# Altium footprint library USB2.0_HUB_CAP.PcbLib: 2 footprints
Each footprint in its own frame and in the unit in brackets; x right, y up, seen from the top. Pads: shape width x height; smd on the part's side, far side on the other; paste and mask are expansions set on the pad; w line width, h text height; cw(c..) or ccw(c..) is an arc to the next point about the centre after c.
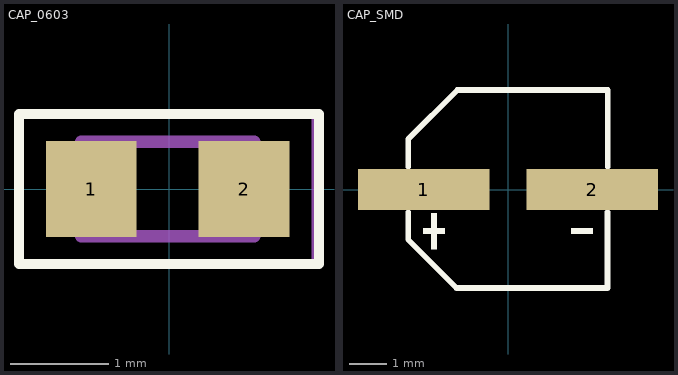
[diagram p0: the footprints below, top view; thin cyan lines are the x and y axes]

## CAP_0603 [mm]
pads (2):
  rect 0.92x0.98 smd: 1(-0.788,0) 2(0.762,0)
Top Overlay:
  lines w0.1: -1.524,-0.762 1.524,-0.762 1.524,0.762 -1.524,0.762 -1.524,-0.762
Mechanical 13:
  lines w0.127: -0.893,-0.48 -0.893,0.48 0.867,0.48 0.867,-0.48 -0.893,-0.48
Mechanical 15:
  lines w0.05: -1.498,-0.74 -1.498,0.74 1.472,0.74 1.472,-0.74 -1.498,-0.74
3D body "step_temp.STEP": height 0.9, standoff 0, extent -0.813,-0.405 0.787,0.405

## CAP_SMD [mm]
pads (2):
  rect 3.5x1.1 smd paste+0 mask+0.051: 1(-2.245,0) 2(2.245,0)
Top Overlay:
  region: -2.04,-0.624 -2.04,-1.584 -1.896,-1.584 -1.896,-0.624
  region: -2.256,-1.032 -2.256,-1.176 -1.68,-1.176 -1.68,-1.032
  region: 2.256,-1.032 2.256,-1.176 1.68,-1.176 1.68,-1.032
  lines w0.152: -2.659,-0.607 -2.659,-1.331 -1.372,-2.619 2.649,-2.619 2.649,-0.607 ; -2.659,0.607 -2.659,1.341 -1.349,2.649 2.659,2.649 2.659,0.607
Mechanical 15:
  region: -2.04,0.48 -2.04,-0.48 -1.896,-0.48 -1.896,0.48
  region: -2.256,0.072 -2.256,-0.072 -1.68,-0.072 -1.68,0.072
  region: 2.256,0.072 2.256,-0.072 1.68,-0.072 1.68,0.072
3D body "100uF.stp": height 5.9, standoff 0.1, extent -3.34,-2.667 3.34,2.633